# Altium integrated library EEUFP1E152.IntLib: 1 symbol
Pins are listed as number, name and electrical type; pins without a type are passive.

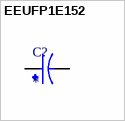
[diagram p0: symbol EEUFP1E152]

## EEUFP1E152
designator C?
Aluminum Electrolytic Capacitors - Radial Leaded 25VDC 1500uF 20% ESR 0.038ohm AECQ200; MF: Panasonic; MP: EEUFP1E152; Package: RADIAL-2 Panasonic; Value: *; Purchase-URL: https://pricing.snapeda.com/search/part/EEUFP1E152/?ref=eda; Availability: In Stock; Check_prices: https://www.snapeda.com/parts/EEUFP1E152/Panasonic/view-part/?ref=eda; SnapEDA_Link: https://www.snapeda.com/parts/EEUFP1E152/Panasonic/view-part/?ref=snap; Price: None
footprint CAPPRD500W60D1250H2000
pins: N, P